# EAGLE library part FPGA_MODUL_XC6SLX9 (library bitrecords)
Footprint für das BitRecords FPGA Modul XC6SLX9
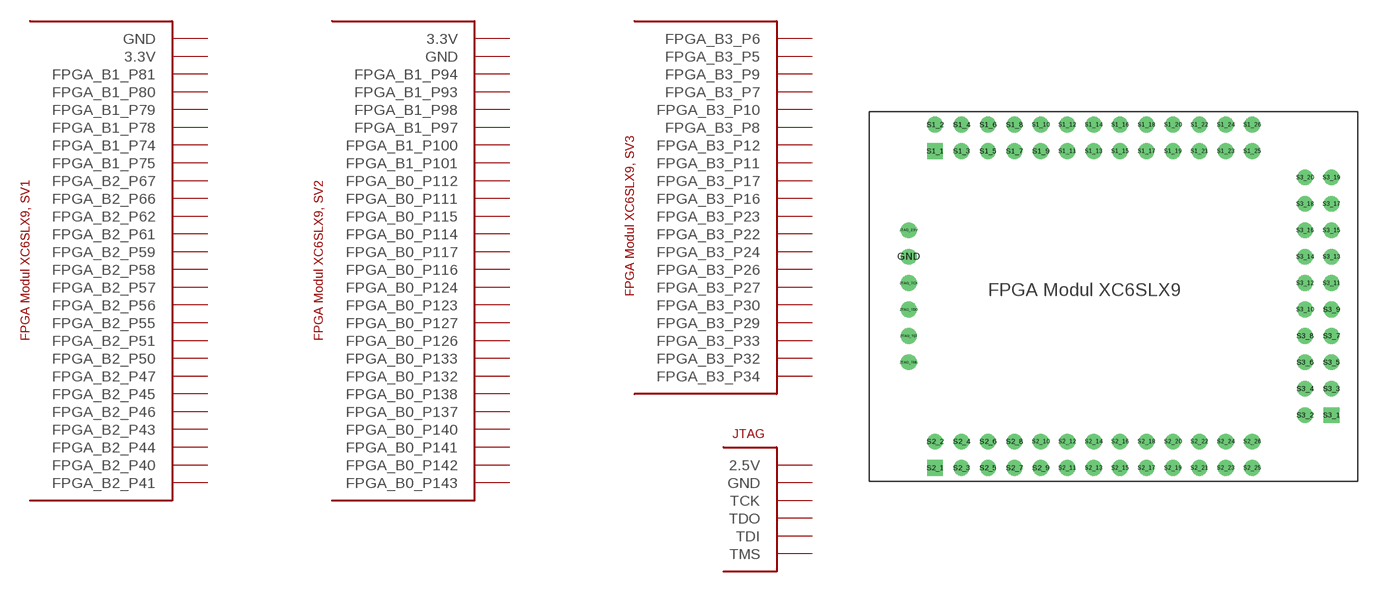
[diagram p1: symbol with the pads of XC6SLX9; footprint XC6SLX9]

Designator prefix MODUL; gates G$1=XC6SLX9_S1 G$2=XC6SLX9_S2 G$3=XC6SLX9_S3 G$4=JTAG

## FPGA_MODUL_XC6SLX9  [XC6SLX9]
GND  G$4:GND  pwr
JTAG_2.5V  G$4:2.5V  sup
JTAG_TCK  G$4:TCK
JTAG_TDI  G$4:TDI
JTAG_TDO  G$4:TDO
JTAG_TMS  G$4:TMS
S1_1  G$1:GND  pwr
S1_2  G$1:3.3V  pwr
S1_3  G$1:FPGA_B1_P81
S1_4  G$1:FPGA_B1_P80
S1_5  G$1:FPGA_B1_P79
S1_6  G$1:FPGA_B1_P78
S1_7  G$1:FPGA_B1_P74
S1_8  G$1:FPGA_B1_P75
S1_9  G$1:FPGA_B2_P67
S1_10  G$1:FPGA_B2_P66
S1_11  G$1:FPGA_B2_P62
S1_12  G$1:FPGA_B2_P61
S1_13  G$1:FPGA_B2_P59
S1_14  G$1:FPGA_B2_P58
S1_15  G$1:FPGA_B2_P57
S1_16  G$1:FPGA_B2_P56
S1_17  G$1:FPGA_B2_P55
S1_18  G$1:FPGA_B2_P51
S1_19  G$1:FPGA_B2_P50
S1_20  G$1:FPGA_B2_P47
S1_21  G$1:FPGA_B2_P45
S1_22  G$1:FPGA_B2_P46
S1_23  G$1:FPGA_B2_P43
S1_24  G$1:FPGA_B2_P44
S1_25  G$1:FPGA_B2_P40
S1_26  G$1:FPGA_B2_P41
S2_1  G$2:3.3V  pwr
S2_2  G$2:GND  pwr
S2_3  G$2:FPGA_B1_P94
S2_4  G$2:FPGA_B1_P93
S2_5  G$2:FPGA_B1_P98
S2_6  G$2:FPGA_B1_P97
S2_7  G$2:FPGA_B1_P100
S2_8  G$2:FPGA_B1_P101
S2_9  G$2:FPGA_B0_P112
S2_10  G$2:FPGA_B0_P111
S2_11  G$2:FPGA_B0_P115
S2_12  G$2:FPGA_B0_P114
S2_13  G$2:FPGA_B0_P117
S2_14  G$2:FPGA_B0_P116
S2_15  G$2:FPGA_B0_P124
S2_16  G$2:FPGA_B0_P123
S2_17  G$2:FPGA_B0_P127
S2_18  G$2:FPGA_B0_P126
S2_19  G$2:FPGA_B0_P133
S2_20  G$2:FPGA_B0_P132
S2_21  G$2:FPGA_B0_P138
S2_22  G$2:FPGA_B0_P137
S2_23  G$2:FPGA_B0_P140
S2_24  G$2:FPGA_B0_P141
S2_25  G$2:FPGA_B0_P142
S2_26  G$2:FPGA_B0_P143
S3_1  G$3:FPGA_B3_P6
S3_2  G$3:FPGA_B3_P5
S3_3  G$3:FPGA_B3_P9
S3_4  G$3:FPGA_B3_P7
S3_5  G$3:FPGA_B3_P10
S3_6  G$3:FPGA_B3_P8
S3_7  G$3:FPGA_B3_P12
S3_8  G$3:FPGA_B3_P11
S3_9  G$3:FPGA_B3_P17
S3_10  G$3:FPGA_B3_P16
S3_11  G$3:FPGA_B3_P23
S3_12  G$3:FPGA_B3_P22
S3_13  G$3:FPGA_B3_P24
S3_14  G$3:FPGA_B3_P26
S3_15  G$3:FPGA_B3_P27
S3_16  G$3:FPGA_B3_P30
S3_17  G$3:FPGA_B3_P29
S3_18  G$3:FPGA_B3_P33
S3_19  G$3:FPGA_B3_P32
S3_20  G$3:FPGA_B3_P34

## Footprint XC6SLX9 (pad centres in mm)
drill 1: GND -17.78,3.81; JTAG_2.5V -17.78,6.35; JTAG_TCK -17.78,1.27; JTAG_TDI -17.78,-3.81; JTAG_TDO -17.78,-1.27; JTAG_TMS -17.78,-6.35; S1_2 -15.24,16.51; S1_3 -12.7,13.97; S1_4 -12.7,16.51; S1_5 -10.16,13.97; S1_6 -10.16,16.51; S1_7 -7.62,13.97; S1_8 -7.62,16.51; S1_9 -5.08,13.97; S1_10 -5.08,16.51; S1_11 -2.54,13.97; S1_12 -2.54,16.51; S1_13 0,13.97; S1_14 0,16.51; S1_15 2.54,13.97; S1_16 2.54,16.51; S1_17 5.08,13.97; S1_18 5.08,16.51; S1_19 7.62,13.97; S1_20 7.62,16.51; S1_21 10.16,13.97; S1_22 10.16,16.51; S1_23 12.7,13.97; S1_24 12.7,16.51; S1_25 15.24,13.97; S1_26 15.24,16.51; S2_2 -15.24,-13.97; S2_3 -12.7,-16.51; S2_4 -12.7,-13.97; S2_5 -10.16,-16.51; S2_6 -10.16,-13.97; S2_7 -7.62,-16.51; S2_8 -7.62,-13.97; S2_9 -5.08,-16.51; S2_10 -5.08,-13.97; S2_11 -2.54,-16.51; S2_12 -2.54,-13.97; S2_13 0,-16.51; S2_14 0,-13.97; S2_15 2.54,-16.51; S2_16 2.54,-13.97; S2_17 5.08,-16.51; S2_18 5.08,-13.97; S2_19 7.62,-16.51; S2_20 7.62,-13.97; S2_21 10.16,-16.51; S2_22 10.16,-13.97; S2_23 12.7,-16.51; S2_24 12.7,-13.97; S2_25 15.24,-16.51; S2_26 15.24,-13.97; S3_2 20.32,-11.43; S3_3 22.86,-8.89; S3_4 20.32,-8.89; S3_5 22.86,-6.35; S3_6 20.32,-6.35; S3_7 22.86,-3.81; S3_8 20.32,-3.81; S3_9 22.86,-1.27; S3_10 20.32,-1.27; S3_11 22.86,1.27; S3_12 20.32,1.27; S3_13 22.86,3.81; S3_14 20.32,3.81; S3_15 22.86,6.35; S3_16 20.32,6.35; S3_17 22.86,8.89; S3_18 20.32,8.89; S3_19 22.86,11.43; S3_20 20.32,11.43
drill 1 square: S1_1 -15.24,13.97; S2_1 -15.24,-16.51; S3_1 22.86,-11.43